# Altium footprint library QUTMS-MCISOLibrary.PcbLib: 51 footprints (part 4 of 4)
Each footprint in its own frame and in the unit in brackets; x right, y up, seen from the top. Pads: shape width x height; smd on the part's side, far side on the other; paste and mask are expansions set on the pad; w line width, h text height; cw(c..) or ccw(c..) is an arc to the next point about the centre after c.
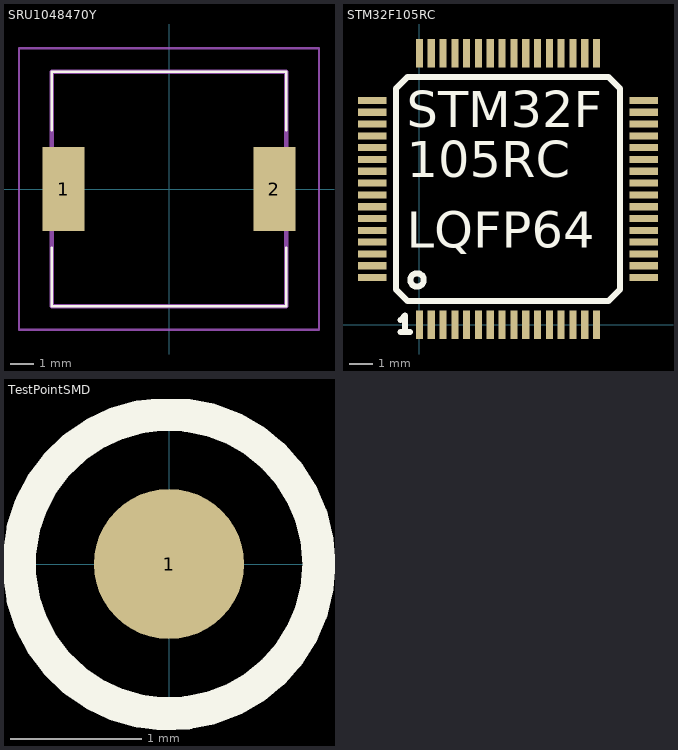
[diagram p3: the footprints below, top view; thin cyan lines are the x and y axes]

## SRU1048470Y [mm]
pads (2):
  rect 1.8x3.6 smd: 1(-4.5,0) 2(4.5,0)
Top Overlay:
  lines w0.1: -5,-2.5 -5,-5 5,-5 5,-2.5 ; -5,2.5 -5,5 5,5 5,2.5
Mechanical 13:
  lines w0.2: -5,-5 5,-5 5,5 -5,5 -5,-5
Mechanical 15:
  lines w0.1: -6.4,-6 6.4,-6 6.4,6 -6.4,6 -6.4,-6
3D body "SRU1048-470Y.stp": height 4.8, standoff 0, extent -5,-5 5,5

## STM32F105RC [mm]
pads (64):
  rect 0.3x1.2 smd: 1(0,0) 2(0.5,0) 3(1,0) 4(1.5,0) 5(2,0) 6(2.5,0) 7(3,0) 8(3.5,0) 9(4,0) 10(4.5,0) 11(5,0) 12(5.5,0) 13(6,0) 14(6.5,0) 15(7,0) 16(7.5,0) 33(7.5,11.5) 34(7,11.5) 35(6.5,11.5) 36(6,11.5) 37(5.5,11.5) 38(5,11.5) 39(4.5,11.5) 40(4,11.5) 41(3.5,11.5) 42(3,11.5) 43(2.5,11.5) 44(2,11.5) 45(1.5,11.5) 46(1,11.5) 47(0.5,11.5) 48(0,11.5)
  rect 1.2x0.3 smd: 17(9.5,2) 18(9.5,2.5) 19(9.5,3) 20(9.5,3.5) 21(9.5,4) 22(9.5,4.5) 23(9.5,5) 24(9.5,5.5) 25(9.5,6) 26(9.5,6.5) 27(9.5,7) 28(9.5,7.5) 29(9.5,8) 30(9.5,8.5) 31(9.5,9) 32(9.5,9.5) 49(-2,9.5) 50(-2,9) 51(-2,8.5) 52(-2,8) 53(-2,7.5) 54(-2,7) 55(-2,6.5) 56(-2,6) 57(-2,5.5) 58(-2,5) 59(-2,4.5) 60(-2,4) 61(-2,3.5) 62(-2,3) 63(-2,2.5) 64(-2,2)
Top Overlay:
  circle w0.254: c-0.1,1.9 r0.283
  lines w0.254: -0.8,-0.3 -0.4,-0.3 ; -0.6,-0.3 -0.6,0.4 -0.8,0.2 ; -0.8,0.2 -0.8,0.2 ; -1,1.5 -1,10 -0.5,10.5 8,10.5 8.5,10 8.5,1.5 8,1 -0.5,1 -1,1.5
  text "STM32F" at -0.546,8.354 h1.52
  text "105RC" at -0.546,6.254 h1.52
  text "LQFP64" at -0.546,3.254 h1.52
3D body "STM32 LQFP64.step": height 1.6, standoff 0, extent -2.25,-0.25 9.75,11.75

## TestPointSMD [mil]
pads (1):
  round 45 smd: 1(0,0)
Top Overlay:
  circle w10: c0,0 r45